# EAGLE library part LTC3035 (library PowerProducts)
LT-Spice library generated with : ltspice.ulp from: D:/Program Files (x86)/LTC/LTspiceIV/lib/sym/PowerProducts/LTC3225-1*.asy at 07.10.2012 17:57:05
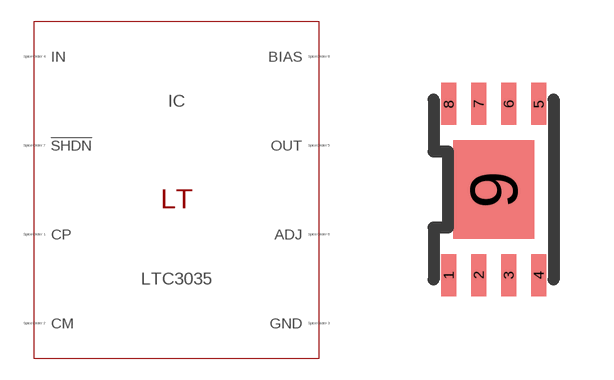
[diagram p116: symbol with the pads of DFN8(DDB); footprint DFN8(DDB)]

Designator prefix IC

## LTC3035 (SPICEMODEL: LTC3035.sub; SPICEPREFIX: X; VALUE2: LTC3035)  [DFN8(DDB)]
1  CP  pas
2  CM  pas
3  GND  pas
4  IN  pas
5  OUT  pas
6  ADJ  pas
7  !SHDN  pas
8  BIAS  pas
9  GND  pas

## Footprint DFN8(DDB) (pad centres in mm)
Package generated from: DFN8(DDB).asc (!PADS-POWERPCB-V5.0-BASIC! DESIGN DATABASE ASCII FILE 1.0) with :import-pads-powerpcb-v5.ulp Version 1.0.1 at 04.10.2012 14:11:17
smd 0.375 x 1.05: 1 -1.125,-2.138; 2 -0.375,-2.138; 3 0.375,-2.138; 4 1.125,-2.138; 5 1.125,2.138; 6 0.375,2.138; 7 -0.375,2.138; 8 -1.125,2.138
smd 2.025 x 2.475: 9 0,0